# Altium footprint library RFmodules.PcbLib: 47 footprints (part 2 of 3)
Each footprint in its own frame and in the unit in brackets; x right, y up, seen from the top. Pads: shape width x height; smd on the part's side, far side on the other; paste and mask are expansions set on the pad; w line width, h text height; cw(c..) or ccw(c..) is an arc to the next point about the centre after c.
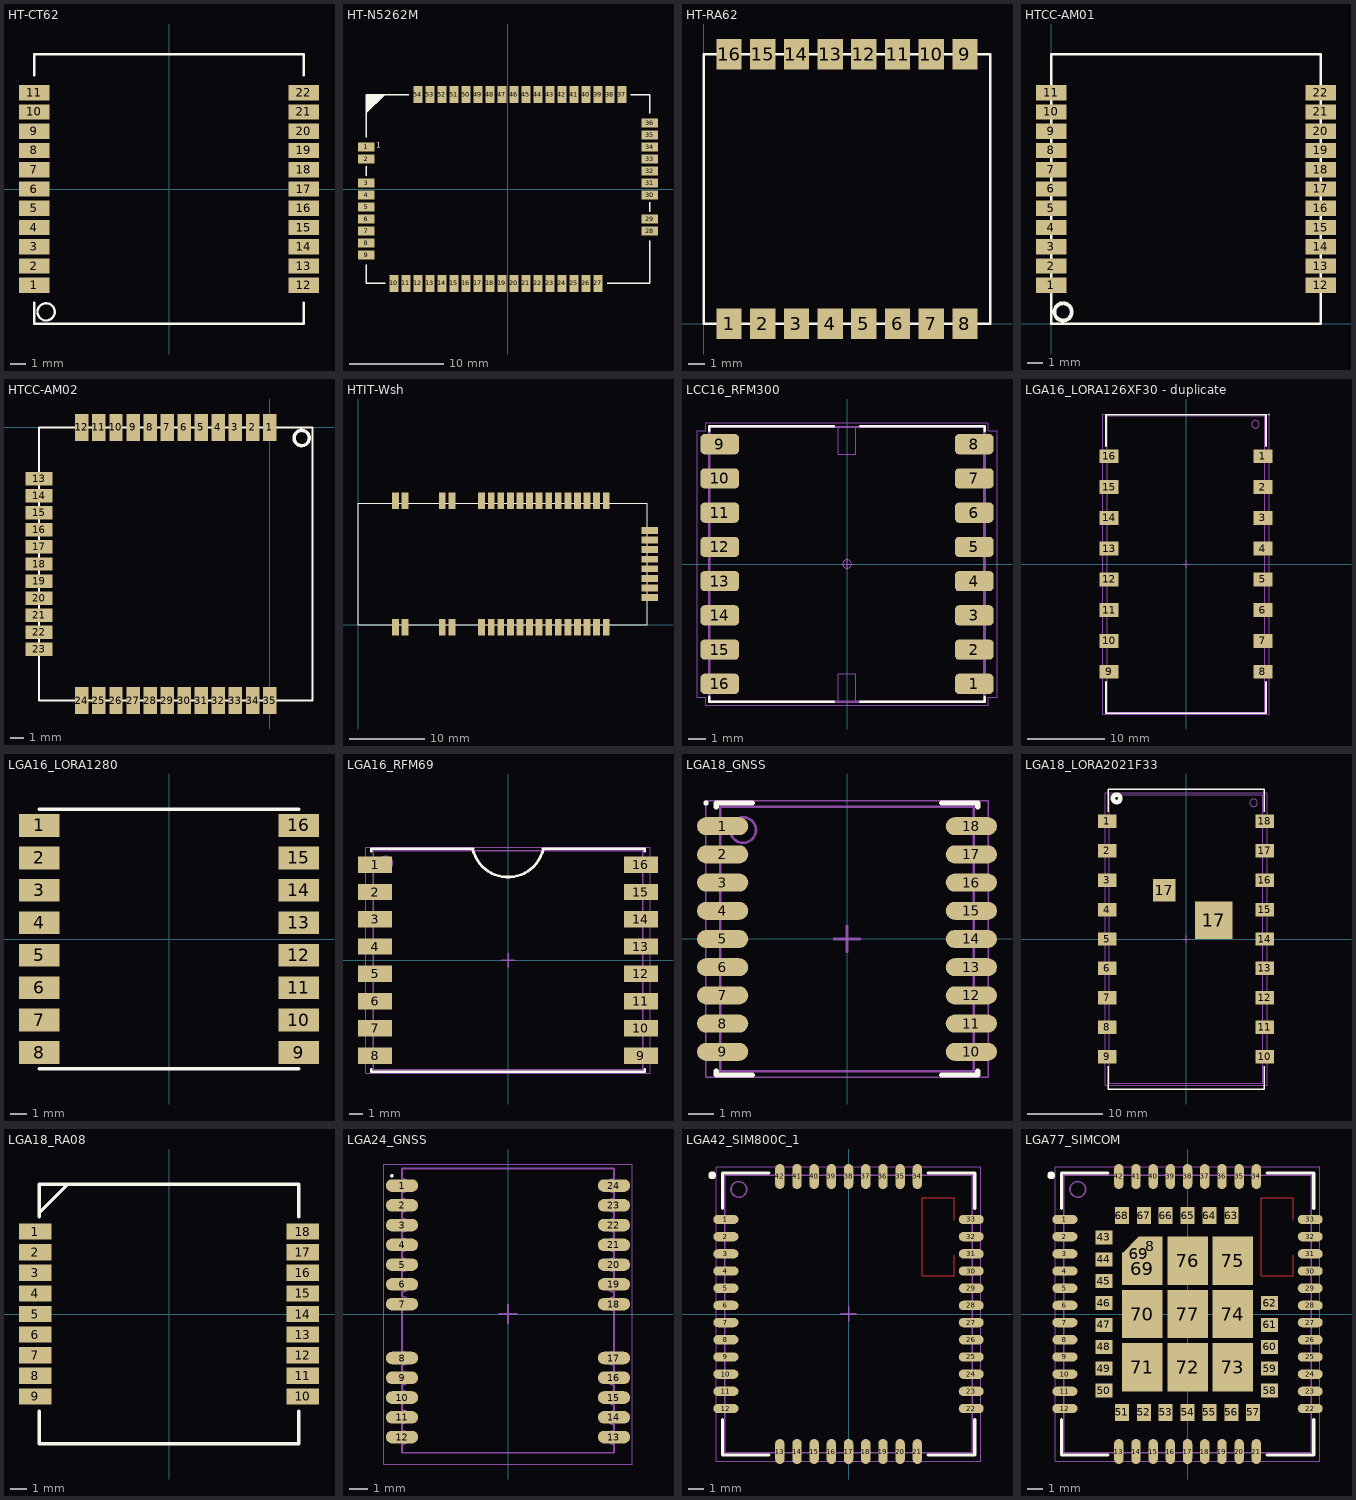
[diagram p1: the footprints below, top view; thin cyan lines are the x and y axes]

## HT-CT62 [mm]
pads (22):
  rect 2x1 smd: 1(-8.89,-6.35) 2(-8.89,-5.08) 3(-8.89,-3.81) 4(-8.89,-2.54) 5(-8.89,-1.27) 6(-8.89,0) 7(-8.89,1.27) 8(-8.89,2.54) 9(-8.89,3.81) 10(-8.89,5.08) 11(-8.89,6.35) 12(8.89,-6.35) 13(8.89,-5.08) 14(8.89,-3.81) 15(8.89,-2.54) 16(8.89,-1.27) 17(8.89,0) 18(8.89,1.27) 19(8.89,2.54) 20(8.89,3.81) 21(8.89,5.08) 22(8.89,6.35)
Top Overlay:
  circle w0.152: c-8.103,-8.103 r0.568
  lines w0.152: -8.89,-7.5 -8.89,-8.89 8.89,-8.89 8.89,-7.5 ; -8.89,7.5 -8.89,8.89 8.89,8.89 8.89,7.5
3D body "heltec ht62.step": height 2.8, standoff 0, extent -8.89,-8.89 8.89,8.89

## HT-N5262M [mm]
pads (54):
  rect 1.75x0.9 smd: 1(-15,4.445) 2(-15,3.175) 3(-15,0.635) 4(-15,-0.635) 5(-15,-1.905) 6(-15,-3.175) 7(-15,-4.445) 8(-15,-5.715) 9(-15,-6.985) 28(15,-4.445) 29(15,-3.175) 30(15,-0.635) 31(15,0.635) 32(15,1.905) 33(15,3.175) 34(15,4.445) 35(15,5.715) 36(15,6.985)
  rect 0.9x1.75 smd: 10(-12.065,-10) 11(-10.795,-10) 12(-9.525,-10) 13(-8.255,-10) 14(-6.985,-10) 15(-5.715,-10) 16(-4.445,-10) 17(-3.175,-10) 18(-1.905,-10) 19(-0.635,-10) 20(0.635,-10) 21(1.905,-10) 22(3.175,-10) 23(4.445,-10) 24(5.715,-10) 25(6.985,-10) 26(8.255,-10) 27(9.525,-10) 37(12.065,10) 38(10.795,10) 39(9.525,10) 40(8.255,10) 41(6.985,10) 42(5.715,10) 43(4.445,10) 44(3.175,10) 45(1.905,10) 46(0.635,10) 47(-0.635,10) 48(-1.905,10) 49(-3.175,10) 50(-4.445,10) 51(-5.715,10) 52(-6.985,10) 53(-8.255,10) 54(-9.525,10)
Top Overlay:
  region: -13,10 -15,8 -15,10
  lines w0.152: -15,-8 -15,-10 -13,-10 ; -15,1.397 -15,2.397 ; -15,5.5 -15,10 -10.5,10 ; 10.5,-10 15,-10 15,-5.5 ; 13,10 15,10 15,8 ; 15,-2.397 15,-1.397
  text "1" at -13.919,4.135 h1.02

## HT-RA62 [mm]
pads (16):
  rect 1.5x1.8 smd: 1(1.5,0) 2(3.5,0) 3(5.5,0) 4(7.5,0) 5(9.5,0) 6(11.5,0) 7(13.5,0) 8(15.5,0) 9(15.5,16) 10(13.5,16) 11(11.5,16) 12(9.5,16) 13(7.5,16) 14(5.5,16) 15(3.5,16) 16(1.5,16)
Top Overlay:
  lines w0.152: 0,0 0,16 17,16 17,0 0,0
3D body "RA-02-2.step": height 3.2, standoff 0, extent 0,0 17,16

## HTCC-AM01 [mm]
pads (22):
  rect 2x1 smd: 1(0,2.54) 2(0,3.81) 3(0,5.08) 4(0,6.35) 5(0,7.62) 6(0,8.89) 7(0,10.16) 8(0,11.43) 9(0,12.7) 10(0,13.97) 11(0,15.24) 12(17.78,2.54) 13(17.78,3.81) 14(17.78,5.08) 15(17.78,6.35) 16(17.78,7.62) 17(17.78,8.89) 18(17.78,10.16) 19(17.78,11.43) 20(17.78,12.7) 21(17.78,13.97) 22(17.78,15.24)
Top Overlay:
  circle w0.254: c0.787,0.787 r0.568
  lines w0.152: 0,0 0,17.78 17.78,17.78 17.78,0 0,0
3D body "heltec ht62.step": height 2.8, standoff 0, extent 0.01,0.01 17.79,17.79

## HTCC-AM02 [mm]
pads (35):
  rect 1x2 smd: 1(0,0) 2(-1.27,0) 3(-2.54,0) 4(-3.81,0) 5(-5.08,0) 6(-6.35,0) 7(-7.62,0) 8(-8.89,0) 9(-10.16,0) 10(-11.43,0) 11(-12.7,0) 12(-13.97,0) 24(-13.97,-20.32) 25(-12.7,-20.32) 26(-11.43,-20.32) 27(-10.16,-20.32) 28(-8.89,-20.32) 29(-7.62,-20.32) 30(-6.35,-20.32) 31(-5.08,-20.32) 32(-3.81,-20.32) 33(-2.54,-20.32) 34(-1.27,-20.32) 35(0,-20.32)
  rect 2x1 smd: 13(-17.145,-3.81) 14(-17.145,-5.08) 15(-17.145,-6.35) 16(-17.145,-7.62) 17(-17.145,-8.89) 18(-17.145,-10.16) 19(-17.145,-11.43) 20(-17.145,-12.7) 21(-17.145,-13.97) 22(-17.145,-15.24) 23(-17.145,-16.51)
Top Overlay:
  circle w0.254: c2.388,-0.787 r0.568
  lines w0.152: 0.635,0 0.686,0 ; -17.145,-20.32 -17.145,0 3.175,0 3.175,-20.32 -17.145,-20.32

## HTIT-Wsh [mm]
pads (44):
  rect 0.9x2.2 smd: 1(4.953,-0.3) 2(6.223,-0.3) 3(11.176,-0.3) 4(12.446,-0.3) 5(16.383,-0.3) 6(17.653,-0.3) 7(18.923,-0.3) 8(20.193,-0.3) 9(21.463,-0.3) 10(22.733,-0.3) 11(24.003,-0.3) 12(25.273,-0.3) 13(26.543,-0.3) 14(27.813,-0.3) 15(29.083,-0.3) 16(30.353,-0.3) 17(31.623,-0.3) 18(32.893,-0.3) 27(32.893,16.429) 28(31.623,16.429) 29(30.353,16.429) 30(29.083,16.429) 31(27.813,16.429) 32(26.543,16.429) 33(25.273,16.429) 34(24.003,16.429) 35(22.733,16.429) 36(21.463,16.429) 37(20.193,16.429) 38(18.923,16.429) 39(17.653,16.429) 40(16.383,16.429) 41(12.446,16.429) 42(11.176,16.429) 43(6.223,16.429) 44(4.953,16.429)
  rect 2.2x0.9 smd: 19(38.654,3.619) 20(38.654,4.889) 21(38.654,6.159) 22(38.654,7.429) 23(38.654,8.7) 24(38.654,9.97) 25(38.654,11.239) 26(38.654,12.509)
Top Overlay:
  lines w0.152: 0,0 38.354,0 38.354,16.129 0,16.129 0,0

## LCC16_RFM300 [mm] "Leadless Chip Carrier (LCC), 2.00 mm pitch; square, 1 pin X 8 pin, 16.00 mm L X 16.00 mm W X 1.90 mm H body"
height 1.9
pads (16):
  rrect42% 2.26x1.18 smd: 1(7.435,-7) 2(7.435,-5) 3(7.435,-3) 4(7.435,-1) 5(7.435,1) 6(7.435,3) 7(7.435,5) 8(7.435,7) 9(-7.435,7) 10(-7.435,5) 11(-7.435,3) 12(-7.435,1) 13(-7.435,-1) 14(-7.435,-3) 15(-7.435,-5) 16(-7.435,-7)
Top Overlay:
  lines w0.12: -8.05,-7.77 -8.05,-8.05 -0.77,-8.05 ; -8.05,7.77 -8.05,8.05 -0.77,8.05 ; 0.77,-8.05 8.05,-8.05 8.05,-7.77 ; 0.77,8.05 8.05,8.05 8.05,7.77
Mechanical 11:
  lines w0.12: -8.05,-8.05 8.05,-8.05 8.05,8 -8.05,8 -8.05,-8.05
Mechanical 12:
  lines w0.025: -8,-8 8,-8 8,8 -8,8 -8,-8 ; -8,-7.525 -8,-6.475 -6.4,-6.475 -6.4,-7.525 -8,-7.525 ; -8,-5.525 -8,-4.475 -6.4,-4.475 -6.4,-5.525 -8,-5.525 ; -8,-3.525 -8,-2.475 -6.4,-2.475 -6.4,-3.525 -8,-3.525 ; -8,-1.525 -8,-0.475 -6.4,-0.475 -6.4,-1.525 -8,-1.525 ; -8,0.475 -8,1.525 -6.4,1.525 -6.4,0.475 -8,0.475 ; -8,2.475 -8,3.525 -6.4,3.525 -6.4,2.475 -8,2.475 ; -8,4.475 -8,5.525 -6.4,5.525 -6.4,4.475 -8,4.475 ; -8,6.475 -8,7.525 -6.4,7.525 -6.4,6.475 -8,6.475 ; -0.525,-8 -0.525,-6.4 0.525,-6.4 0.525,-8 -0.525,-8 ; -0.525,6.4 -0.525,8 0.525,8 0.525,6.4 -0.525,6.4 ; 6.4,-7.525 8,-7.525 8,-6.475 6.4,-6.475 6.4,-7.525 ; 6.4,-5.525 8,-5.525 8,-4.475 6.4,-4.475 6.4,-5.525 ; 6.4,-3.525 8,-3.525 8,-2.475 6.4,-2.475 6.4,-3.525 ; 6.4,-1.525 8,-1.525 8,-0.475 6.4,-0.475 6.4,-1.525 ; 6.4,0.475 8,0.475 8,1.525 6.4,1.525 6.4,0.475 ; 6.4,2.475 8,2.475 8,3.525 6.4,3.525 6.4,2.475 ; 6.4,4.475 8,4.475 8,5.525 6.4,5.525 6.4,4.475 ; 6.4,6.475 8,6.475 8,7.525 6.4,7.525 6.4,6.475
Mechanical 15:
  circle w0.05: c0,0 r0.25
  lines w0.05: -0.35,0 0.35,0 ; 0,-0.35 0,0.35 ; -8.765,-7.79 -8.25,-7.79 -8.25,-8.25 -0.79,-8.25 0.79,-8.25 8.25,-8.25 8.25,-7.79 8.765,-7.79 8.765,7.79 8.25,7.79 8.25,8.25 0.79,8.25 -0.79,8.25 -8.25,8.25 -8.25,7.79 -8.765,7.79 -8.765,-7.79
Mechanical 16:
  text ".Designator" at 0,0 h1.2
3D body "LCC16_RFM300.STEP": height 1.9, standoff 0, extent -8.05,-8.05 8.05,8.05

## LGA16_LORA126XF30 - duplicate [mm]
height 4.05
pads (16):
  rect 2.5x1.8 smd: 1(10,14) 2(10,10) 3(10,6) 4(10,2) 5(10,-2) 6(10,-6) 7(10,-10) 8(10,-14) 9(-10,-14) 10(-10,-10) 11(-10,-6) 12(-10,-2) 13(-10,2) 14(-10,6) 15(-10,10) 16(-10,14)
Top Overlay:
  circle w0.1: c10.795,19.431 r0.05
  lines w0.2: -10.4,-15.3 -10.4,-19.4 10.4,-19.4 10.4,-15.3 ; -10.4,15.3 -10.4,19.4 10.4,19.4 10.4,15.3
Top Courtyard:
  lines w0.05: -10.8,-19.5 -10.8,19.5 10.8,19.5 10.8,-19.5 -10.8,-19.5
  lines w0.1: -0.5,0 0.5,0 ; 0,-0.5 0,0.5
Top Assembly:
  circle w0.1: c9.017,18.161 r0.5
  lines w0.1: -10.25,-19.25 -10.25,19.25 10.25,19.25 10.25,-19.25 -10.25,-19.25
3D body "LORA126XF30.STEP": height 3, standoff 0, extent -10.05,-19 10.05,19

## LGA16_LORA1280 [mm]
pads (16):
  rect 2.5x1.4 smd: 1(-8,7) 2(-8,5) 3(-8,3) 4(-8,1) 5(-8,-1) 6(-8,-3) 7(-8,-5) 8(-8,-7) 9(8,-7) 10(8,-5) 11(8,-3) 12(8,-1) 13(8,1) 14(8,3) 15(8,5) 16(8,7)
Top Overlay:
  lines w0.2: -8,-8 8,-8 ; -8,8 8,8
3D body: height 1.5, standoff 0, extent -7.5,-7.514 7.5,7.514

## LGA16_RFM69 [mm] "LGA, 16-Leads, RFM69HW"
height 2
pads (16):
  rect 2.5x1.2 smd: 1(-9.75,7) 2(-9.75,5) 3(-9.75,3) 4(-9.75,1) 5(-9.75,-1) 6(-9.75,-3) 7(-9.75,-5) 8(-9.75,-7) 9(9.75,-7) 10(9.75,-5) 11(9.75,-3) 12(9.75,-1) 13(9.75,1) 14(9.75,3) 15(9.75,5) 16(9.75,7)
Top Overlay:
  lines w0.2: -10.025,-8 -10.025,-8.175 10.025,-8.175 10.025,-8 ; -10.025,8 -10.025,8.175 -2.575,8.175 ; -2.575,8.095 ccw(c0,8.75) 2.575,8.095 ; 2.575,8.175 10.025,8.175 10.025,8
Mechanical 13:
  circle w0.1: c-8.975,7.125 r0.5
  lines w0.1: -9.875,-8.025 9.875,-8.025 9.875,8.025 -9.875,8.025 -9.875,-8.025
Mechanical 15:
  lines w0.05: -10.435,-8.3 10.435,-8.3 10.435,8.3 -10.435,8.3 -10.435,-8.3
  lines w0.1: -0.5,0 0.5,0 ; 0,-0.5 0,0.5
3D body "RFM69W.STEP": height 2, standoff 0.1, extent -9.85,-8 9.85,8

## LGA18_GNSS [mm] "8-Leads, Body 10,10x9,70mm, Pitch 1,10mm"
height 2.6
pads (18):
  oval 2x0.7 smd mask+0.1: 1(-4.85,4.4) 2(-4.85,3.3) 3(-4.85,2.2) 4(-4.85,1.1) 5(-4.85,0) 6(-4.85,-1.1) 7(-4.85,-2.2) 8(-4.85,-3.3) 9(-4.85,-4.4) 10(4.85,-4.4) 11(4.85,-3.3) 12(4.85,-2.2) 13(4.85,-1.1) 14(4.85,0) 15(4.85,1.1) 16(4.85,2.2) 17(4.85,3.3) 18(4.85,4.4)
Top Overlay:
  circle w0.1: c-5.5,5.3 r0.05
  lines w0.2: -5.1,-5.15 -5.1,-5.3 -3.695,-5.3 ; -5.1,5.15 -5.1,5.3 -3.695,5.3 ; 3.695,-5.3 5.1,-5.3 5.1,-5.15 ; 3.695,5.3 5.1,5.3 5.1,5.15
Mechanical 13:
  circle w0.1: c-4.05,4.25 r0.5
  lines w0.1: -4.95,-5.15 4.95,-5.15 4.95,5.15 -4.95,5.15 -4.95,-5.15
Mechanical 15:
  lines w0.05: -5.505,-5.4 5.505,-5.4 5.505,5.4 -5.505,5.4 -5.505,-5.4
  lines w0.1: -0.5,0 0.5,0 ; 0,-0.5 0,0.5
3D body: height 2.6, standoff 0, extent -4.95,-5.15 4.95,5.15

## LGA18_LORA2021F33 [mm]
height 4.05
pads (20):
  rect 2.5x1.8 smd: 1(-10.5,15.72) 2(-10.5,11.79) 3(-10.5,7.86) 4(-10.5,3.93) 5(-10.5,0) 6(-10.5,-3.93) 7(-10.5,-7.86) 8(-10.5,-11.79) 9(-10.5,-15.72) 10(10.5,-15.72) 11(10.5,-11.79) 12(10.5,-7.86) 13(10.5,-3.93) 14(10.5,0) 15(10.5,3.93) 16(10.5,7.86) 17(10.5,11.79) 18(10.5,15.72)
  rect 3x3 smd: 17(-2.91,6.5)
  rect 5x5 smd: 17(3.68,2.5)
Top Overlay:
  circle w0.6: c-9.25,18.75 r0.5
  lines w0.2: -10.4,-17 -10.4,-20 10.4,-20 10.4,-17 ; -10.4,17 -10.4,20 10.4,20 10.4,17
Top Courtyard:
  lines w0.05: -10.8,-19.5 10.8,-19.5 10.8,19.5 -10.8,19.5 -10.8,-19.5
  lines w0.1: -0.5,0 0.5,0 ; 0,-0.5 0,0.5
Top Assembly:
  circle w0.1: c9.017,18.161 r0.5
  lines w0.1: -10.25,-19.25 10.25,-19.25 10.25,19.25 -10.25,19.25 -10.25,-19.25
3D body: height 3.4, standoff 0, extent -10.5,-19.5 10.5,19.53

## LGA18_RA08 [mm]
pads (18):
  rect 2x1 smd: 1(-8.25,5.08) 2(-8.25,3.81) 3(-8.25,2.54) 4(-8.25,1.27) 5(-8.25,0) 6(-8.25,-1.27) 7(-8.25,-2.54) 8(-8.25,-3.81) 9(-8.25,-5.08) 10(8.25,-5.08) 11(8.25,-3.81) 12(8.25,-2.54) 13(8.25,-1.27) 14(8.25,0) 15(8.25,1.27) 16(8.25,2.54) 17(8.25,3.81) 18(8.25,5.08)
Top Overlay:
  lines w0.2: -8,-6 -8,-8 8,-8 8,-6 ; -8,6 -8,8 8,8 8,6 ; -8,6.25 -6.25,8
3D body: height 1.5, standoff 0, extent -7.5,-7.5 7.5,7.528

## LGA24_GNSS [mm]
height 3.4
pads (24):
  oval 1.8x0.7 smd: 1(-5.9,7.15) 2(-5.9,6.05) 3(-5.9,4.95) 4(-5.9,3.85) 5(-5.9,2.75) 6(-5.9,1.65) 7(-5.9,0.55) 8(-5.9,-2.45) 9(-5.9,-3.55) 10(-5.9,-4.65) 11(-5.9,-5.75) 12(-5.9,-6.85) 13(5.9,-6.85) 14(5.9,-5.75) 15(5.9,-4.65) 16(5.9,-3.55) 17(5.9,-2.45) 18(5.9,0.55) 19(5.9,1.65) 20(5.9,2.75) 21(5.9,3.85) 22(5.9,4.95) 23(5.9,6.05) 24(5.9,7.15)
Top Overlay:
  circle w0.1: c-6.462,7.688 r0.05
Mechanical 13:
  lines w0.1: -5.9,1.973 cw(c-5.9,1.6) -5.9,1.227 -5.9,0.975 cw(c-5.9,0.6) -5.9,0.225 -5.9,-1.75 -5.9,-2.1 cw(c-5.9,-2.475) -5.9,-2.85 -5.9,-3.2 cw(c-5.9,-3.575) -5.9,-3.95 -5.9,-4.25 cw(c-5.9,-4.625) -5.9,-5 -5.9,-5.35 cw(c-5.9,-5.725) -5.9,-6.1 -5.9,-6.5 cw(c-5.9,-6.875) -5.9,-7.25 -5.9,-7.725 5.9,-7.725 5.9,-7.25 cw(c5.9,-6.875) 5.9,-6.5 5.9,-6.15 cw(c5.9,-5.775) 5.9,-5.4 5.9,-5.05 cw(c5.9,-4.675) 5.9,-4.3 5.9,-3.95 cw(c5.9,-3.575) 5.9,-3.2 5.9,-2.85 cw(c5.9,-2.475) 5.9,-2.1 5.9,-1.75 5.9,0.2 cw(c5.9,0.575) 5.9,0.95 5.9,1.225 cw(c5.9,1.6) 5.9,1.975 ; -5.9,2.025 -5.9,2.375 ccw(c-5.9,2.75) -5.9,3.125 -5.9,3.475 ccw(c-5.9,3.85) -5.9,4.225 -5.9,4.575 ccw(c-5.9,4.95) -5.9,5.325 -5.9,5.675 ccw(c-5.9,6.05) -5.9,6.425 -5.9,6.775 ccw(c-5.9,7.15) -5.9,7.525 -5.9,8.1 5.9,8.1 5.9,7.525 ccw(c5.9,7.15) 5.9,6.775 5.9,6.425 ccw(c5.9,6.05) 5.9,5.675 5.9,5.325 ccw(c5.9,4.95) 5.9,4.575 5.9,4.225 ccw(c5.9,3.85) 5.9,3.475 5.9,3.125 ccw(c5.9,2.75) 5.9,2.375 5.9,2.025
Mechanical 15:
  lines w0.05: -6.91,-8.35 6.91,-8.35 6.91,8.35 -6.91,8.35 -6.91,-8.35
  lines w0.1: -0.5,0 0.5,0 ; 0,-0.5 0,0.5
3D body: height 3.4, standoff 0, extent -6.2,-7.7 6.2,8.1

## LGA42_SIM800C_1 [mm] "SIM800C module"
height 2.5
pads (42):
  oval 1.6x0.6 smd: 1(-7.85,6.05) 2(-7.85,4.95) 3(-7.85,3.85) 4(-7.85,2.75) 5(-7.85,1.65) 6(-7.85,0.55) 7(-7.85,-0.55) 8(-7.85,-1.65) 9(-7.85,-2.75) 10(-7.85,-3.85) 11(-7.85,-4.95) 12(-7.85,-6.05) 22(7.85,-6.05) 23(7.85,-4.95) 24(7.85,-3.85) 25(7.85,-2.75) 26(7.85,-1.65) 27(7.85,-0.55) 28(7.85,0.55) 29(7.85,1.65) 30(7.85,2.75) 31(7.85,3.85) 32(7.85,4.95) 33(7.85,6.05)
  oval 0.6x1.6 smd: 13(-4.4,-8.8) 14(-3.3,-8.8) 15(-2.2,-8.8) 16(-1.1,-8.8) 17(0,-8.8) 18(1.1,-8.8) 19(2.2,-8.8) 20(3.3,-8.8) 21(4.4,-8.8) 34(4.4,8.8) 35(3.3,8.8) 36(2.2,8.8) 37(1.1,8.8) 38(0,8.8) 39(-1.1,8.8) 40(-2.2,8.8) 41(-3.3,8.8) 42(-4.4,8.8)
Top Layer:
  lines w0.05: 6.75,3.75 6.75,2.45 4.7,2.45 4.7,7.45 6.75,7.45 6.75,6
Top Overlay:
  circle w0.25: c-8.725,8.875 r0.125
  lines w0.2: -8.075,-6.75 -8.075,-9.025 -5.1,-9.025 ; -8.075,6.75 -8.075,9.025 -5.1,9.025 ; 5.1,-9.025 8.075,-9.025 8.075,-6.75 ; 5.1,9.025 8.075,9.025 8.075,6.75
Mechanical 13:
  circle w0.1: c-7.025,7.975 r0.5
  lines w0.1: -7.925,-8.875 7.925,-8.875 7.925,8.875 -7.925,8.875 -7.925,-8.875
Mechanical 15:
  lines w0.05: -8.475,-9.425 8.475,-9.425 8.475,9.425 -8.475,9.425 -8.475,-9.425
  lines w0.1: -0.5,0 0.5,0 ; 0,-0.5 0,0.5
3D body: height 2.5, standoff 0.01, extent -7.925,-8.875 7.925,8.875

## LGA77_SIMCOM [mm] "SIM868 module"
height 2.5
pads (79):
  oval 1.6x0.6 smd: 1(-7.85,6.05) 2(-7.85,4.95) 3(-7.85,3.85) 4(-7.85,2.75) 5(-7.85,1.65) 6(-7.85,0.55) 7(-7.85,-0.55) 8(-7.85,-1.65) 9(-7.85,-2.75) 10(-7.85,-3.85) 11(-7.85,-4.95) 12(-7.85,-6.05) 22(7.85,-6.05) 23(7.85,-4.95) 24(7.85,-3.85) 25(7.85,-2.75) 26(7.85,-1.65) 27(7.85,-0.55) 28(7.85,0.55) 29(7.85,1.65) 30(7.85,2.75) 31(7.85,3.85) 32(7.85,4.95) 33(7.85,6.05)
  rect 1.55x1.2 smd: 8(-2.375,4.35)
  oval 0.6x1.6 smd: 13(-4.4,-8.8) 14(-3.3,-8.8) 15(-2.2,-8.8) 16(-1.1,-8.8) 17(0,-8.8) 18(1.1,-8.8) 19(2.2,-8.8) 20(3.3,-8.8) 21(4.4,-8.8) 34(4.4,8.8) 35(3.3,8.8) 36(2.2,8.8) 37(1.1,8.8) 38(0,8.8) 39(-1.1,8.8) 40(-2.2,8.8) 41(-3.3,8.8) 42(-4.4,8.8)
  rect 1.1x0.9 smd: 43(-5.35,4.9) 44(-5.35,3.5) 45(-5.35,2.1) 46(-5.35,0.7) 47(-5.35,-0.7) 48(-5.35,-2.1) 49(-5.35,-3.5) 50(-5.35,-4.9) 58(5.25,-4.9) 59(5.25,-3.5) 60(5.25,-2.1) 61(5.25,-0.7) 62(5.25,0.7)
  rect 0.9x1.1 smd: 51(-4.2,-6.3) 52(-2.8,-6.3) 53(-1.4,-6.3) 54(0,-6.3) 55(1.4,-6.3) 56(2.8,-6.3) 57(4.2,-6.3) 63(2.8,6.3) 64(1.4,6.3) 65(0,6.3) 66(-1.4,6.3) 67(-2.8,6.3) 68(-4.2,6.3)
  rect 1.55x1.55 smd rot 45: 69(-3.12,3.87)
  rect 2.6x2.07 smd: 69(-2.9,2.885)
  rect 2.6x3.1 smd: 70(-2.9,0) 71(-2.9,-3.4) 72(0,-3.4) 73(2.9,-3.4) 74(2.9,0) 75(2.9,3.4) 76(0,3.4) 77(0,0)
Top Layer:
  lines w0.05: 6.75,3.75 6.75,2.45 4.7,2.45 4.7,7.45 6.75,7.45 6.75,6
Top Overlay:
  circle w0.25: c-8.725,8.875 r0.125
  lines w0.2: -8.075,-6.75 -8.075,-9.025 -5.1,-9.025 ; -8.075,6.75 -8.075,9.025 -5.1,9.025 ; 5.1,-9.025 8.075,-9.025 8.075,-6.75 ; 5.1,9.025 8.075,9.025 8.075,6.75
Mechanical 13:
  circle w0.1: c-7.025,7.975 r0.5
  lines w0.1: -7.925,-8.875 -7.925,8.875 7.925,8.875 7.925,-8.875 -7.925,-8.875
Mechanical 15:
  lines w0.05: -8.475,-9.425 -8.475,9.425 8.475,9.425 8.475,-9.425 -8.475,-9.425
  lines w0.1: -0.5,0 0.5,0 ; 0,-0.5 0,0.5
3D body: height 2.5, standoff 0.01, extent -7.6,-8.875 8.25,8.875